# Altium schematic symbol library kmilo17pet-NSC_MiscPower.SchLib: 1552 symbols (part 42 of 43)
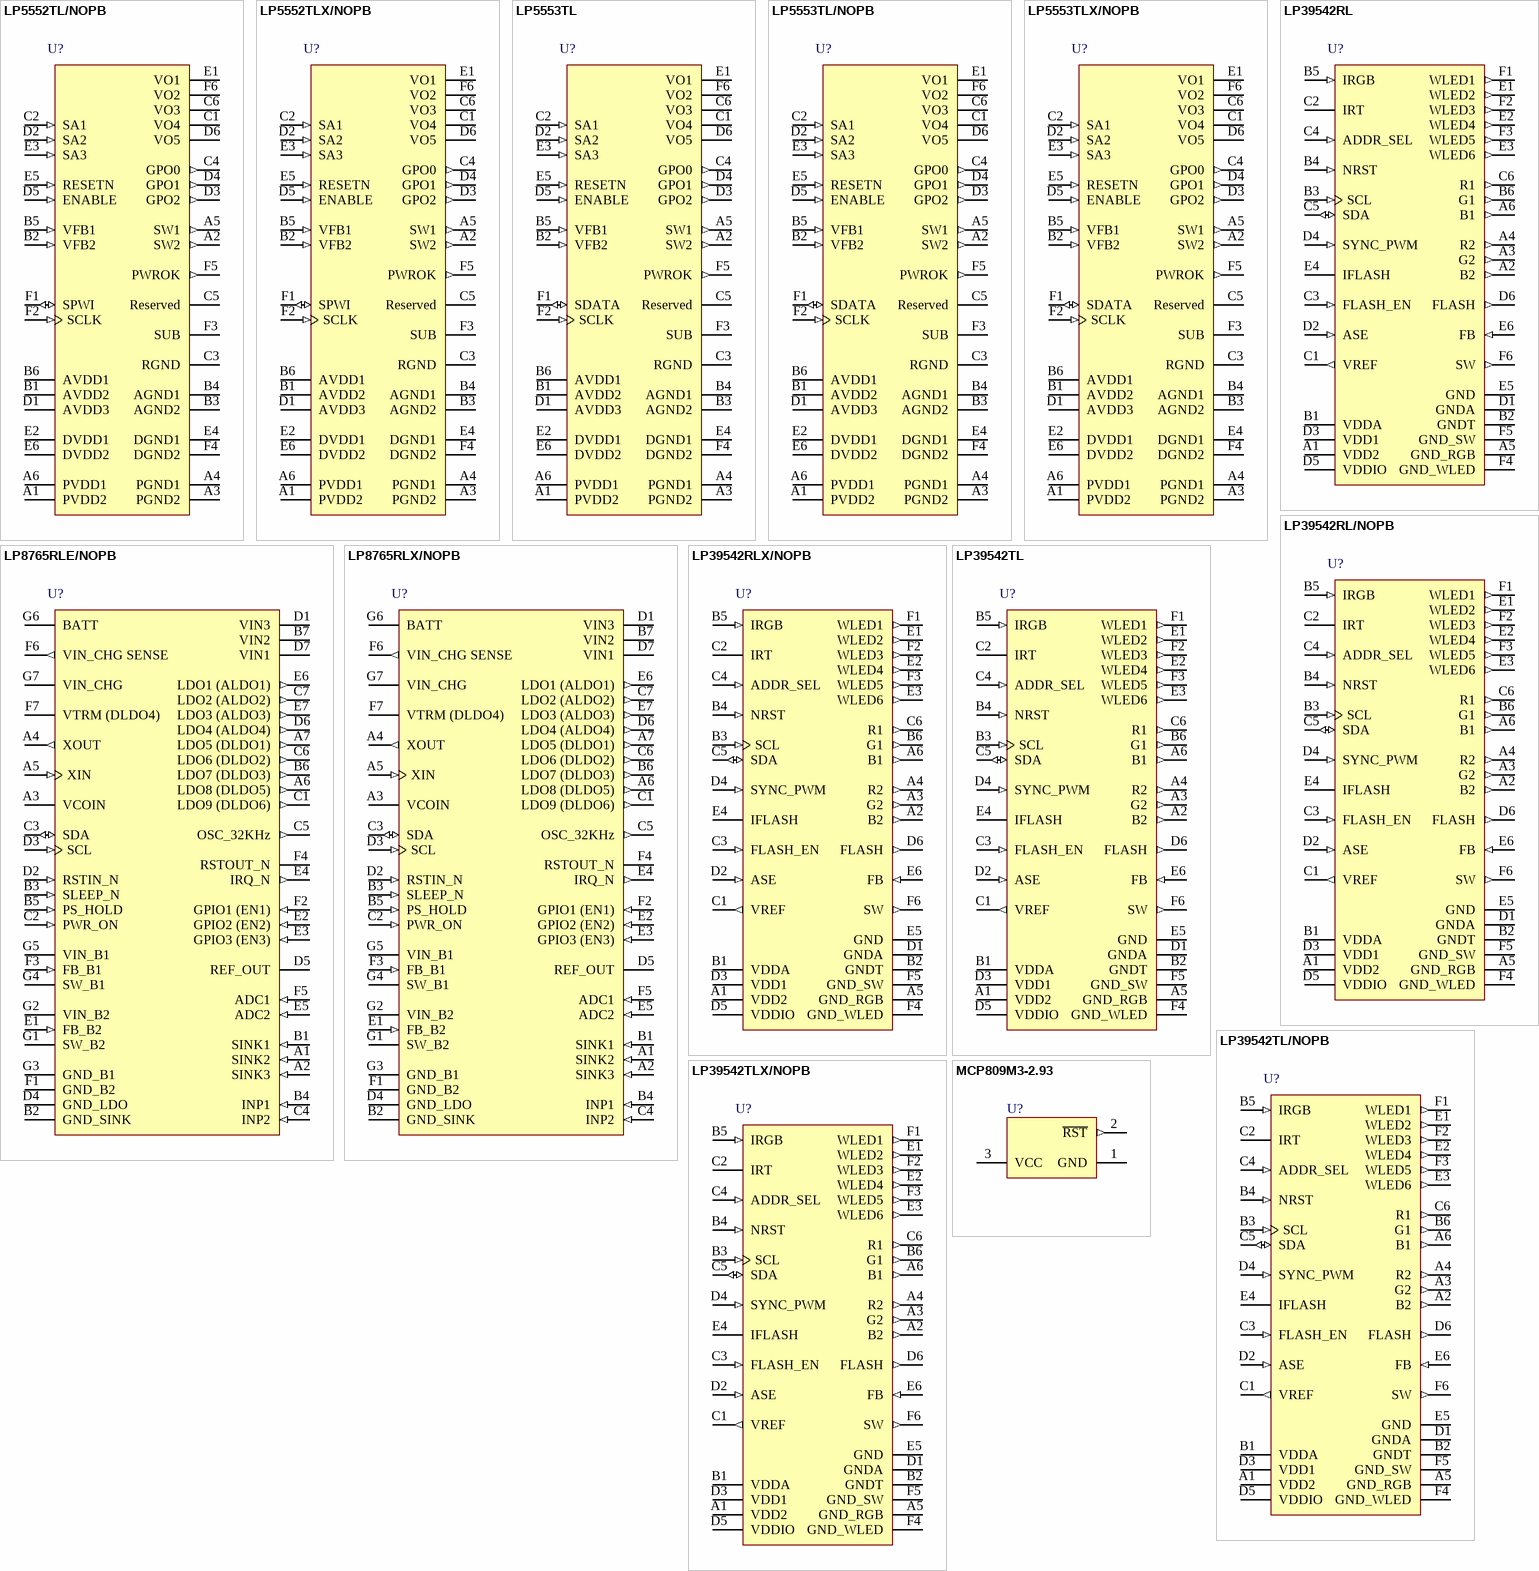
[diagram p98: symbols LP5552TL/NOPB to MCP809M3-2.93]

## LP5553TL
designator U?
PowerWise AVS Energy Management Unit with SPMI, 36-pin Micro SMD; PartNumber: LP5553TL; Manufacturer: National Semiconductor; PackageTopMarking: XYTT*I 5553; PowerWise: Y; CompType: MiscPower; DatasheetVersion: Mar-2009; PackageVersion: revC, Dec-2003; PackageReference: TLA36TTA; PackageDescription: Thin Micro SMD, 36 Bump (Large), 0.5mm Pitch; RoHS: Y; PinCount: 36; High-Reliability: Y; Code_JEDEC: MO-211-DK; ComponentLink1Description: Manufacturer URL; ComponentLink1URL: http://www.national.com/; ComponentLink2Description: LP5553 Datasheet; ComponentLink2URL: http://www.national.com/ds/LP/LP5553.pdf; ComponentLink3Description: LP5553 Web Page; ComponentLink3URL: http://www.national.com/pf/LP/LP5553.html; ComponentLink4Description: TLA36TTA Package Page; ComponentLink4URL: http://www.national.com/packaging/folders/tla36tta.html
footprint TLA36TTA (Micro SMD, 36-Leads, Body 3.46x3.46mm, Pitch 0.5mm, NSC Recommended)
pins: A1 PVDD2 (power), A2 SW2 (out), A3 PGND2 (power), A4 PGND1 (power), A5 SW1 (out), A6 PVDD1 (power), B1 AVDD2 (power), B2 VFB2 (in), B3 AGND2 (power), B4 AGND1 (power), B5 VFB1 (in), B6 AVDD1 (power), C1 VO4 (power), C2 SA1 (in), C3 RGND (power), C4 GPO0 (out), C5 Reserved (power), C6 VO3 (power), D1 AVDD3 (power), D2 SA2 (in), D3 GPO2 (out), D4 GPO1 (out), D5 ENABLE (in), D6 VO5 (power), E1 VO1 (power), E2 DVDD1 (power), E3 SA3 (in), E4 DGND1 (power), E5 RESETN (in), E6 DVDD2 (power), F1 SDATA (io), F2 SCLK (in), F3 SUB (power), F4 DGND2 (power), F5 PWROK (out), F6 VO2 (power)

## LP5553TL/NOPB
designator U?
PowerWise AVS Energy Management Unit with SPMI, 36-pin Micro SMD, Pb-Free; PartNumber: LP5553TL/NOPB; Manufacturer: National Semiconductor; PackageTopMarking: XYTT*I 5553; PowerWise: Y; CompType: MiscPower; DatasheetVersion: Mar-2009; PackageVersion: revC, Dec-2003; PackageReference: TLA36TTA; PackageDescription: Thin Micro SMD, 36 Bump (Large), 0.5mm Pitch; RoHS: Y; PinCount: 36; High-Reliability: Y; Code_JEDEC: MO-211-DK; ComponentLink1Description: Manufacturer URL; ComponentLink1URL: http://www.national.com/; ComponentLink2Description: LP5553 Datasheet; ComponentLink2URL: http://www.national.com/ds/LP/LP5553.pdf; ComponentLink3Description: LP5553 Web Page; ComponentLink3URL: http://www.national.com/pf/LP/LP5553.html; ComponentLink4Description: TLA36TTA Package Page; ComponentLink4URL: http://www.national.com/packaging/folders/tla36tta.html
footprint TLA36TTA (Micro SMD, 36-Leads, Body 3.46x3.46mm, Pitch 0.5mm, NSC Recommended)
pins: A1 PVDD2 (power), A2 SW2 (out), A3 PGND2 (power), A4 PGND1 (power), A5 SW1 (out), A6 PVDD1 (power), B1 AVDD2 (power), B2 VFB2 (in), B3 AGND2 (power), B4 AGND1 (power), B5 VFB1 (in), B6 AVDD1 (power), C1 VO4 (power), C2 SA1 (in), C3 RGND (power), C4 GPO0 (out), C5 Reserved (power), C6 VO3 (power), D1 AVDD3 (power), D2 SA2 (in), D3 GPO2 (out), D4 GPO1 (out), D5 ENABLE (in), D6 VO5 (power), E1 VO1 (power), E2 DVDD1 (power), E3 SA3 (in), E4 DGND1 (power), E5 RESETN (in), E6 DVDD2 (power), F1 SDATA (io), F2 SCLK (in), F3 SUB (power), F4 DGND2 (power), F5 PWROK (out), F6 VO2 (power)

## LP5553TLX/NOPB
designator U?
PowerWise AVS Energy Management Unit with SPMI, 36-pin Micro SMD, Pb-Free; PartNumber: LP5553TLX/NOPB; Manufacturer: National Semiconductor; PackageTopMarking: XYTT*I 5553; PowerWise: Y; CompType: MiscPower; DatasheetVersion: Mar-2009; PackageVersion: revC, Dec-2003; PackageReference: TLA36TTA; PackageDescription: Thin Micro SMD, 36 Bump (Large), 0.5mm Pitch; RoHS: Y; PinCount: 36; High-Reliability: Y; Code_JEDEC: MO-211-DK; ComponentLink1Description: Manufacturer URL; ComponentLink1URL: http://www.national.com/; ComponentLink2Description: LP5553 Datasheet; ComponentLink2URL: http://www.national.com/ds/LP/LP5553.pdf; ComponentLink3Description: LP5553 Web Page; ComponentLink3URL: http://www.national.com/pf/LP/LP5553.html; ComponentLink4Description: TLA36TTA Package Page; ComponentLink4URL: http://www.national.com/packaging/folders/tla36tta.html
footprint TLA36TTA (Micro SMD, 36-Leads, Body 3.46x3.46mm, Pitch 0.5mm, NSC Recommended)
pins: A1 PVDD2 (power), A2 SW2 (out), A3 PGND2 (power), A4 PGND1 (power), A5 SW1 (out), A6 PVDD1 (power), B1 AVDD2 (power), B2 VFB2 (in), B3 AGND2 (power), B4 AGND1 (power), B5 VFB1 (in), B6 AVDD1 (power), C1 VO4 (power), C2 SA1 (in), C3 RGND (power), C4 GPO0 (out), C5 Reserved (power), C6 VO3 (power), D1 AVDD3 (power), D2 SA2 (in), D3 GPO2 (out), D4 GPO1 (out), D5 ENABLE (in), D6 VO5 (power), E1 VO1 (power), E2 DVDD1 (power), E3 SA3 (in), E4 DGND1 (power), E5 RESETN (in), E6 DVDD2 (power), F1 SDATA (io), F2 SCLK (in), F3 SUB (power), F4 DGND2 (power), F5 PWROK (out), F6 VO2 (power)

## LP8765RLE/NOPB
designator U?
High Performance Power Management Unit for Handset Applications, 49-pin Micro SMDXT, 250 Reel; PartNumber: LP8765RLE/NOPB; Manufacturer: National Semiconductor; PackageTopMarking: XYTT*I 8765; PowerWise: N; CompType: MiscPower; High-Reliability: Y; DatasheetVersion: Sep-2011; PackageVersion: revB, Dec-2005; PackageReference: RLA49JJA; PackageDescription: Micro SMDxt, 49 Bump (Large), 3.67 x 3.67 x 0.65 mm Body, 0.5mm Pitch; RoHS: Y; PinCount: 49; ComponentLink1Description: Manufacturer URL; ComponentLink1URL: http://www.national.com/; ComponentLink2Description: LP8765 Datasheet; ComponentLink2URL: http://www.national.com/ds/LP/LP8765.pdf; ComponentLink3Description: LP8765 Web Page; ComponentLink3URL: http://www.national.com/pf/LP/LP8765.html; ComponentLink4Description: RLA49JJA Package Page; ComponentLink4URL: http://www.national.com/packaging/folders/rla49jja.html
footprint RLA49JJA (Micro SMD, 49-Leads, Body 3.67x3.67mm, Pitch 0.5mm, NSC Recommended)
pins: A1 SINK2 (in), A2 SINK3 (in), A3 VCOIN (power), A4 XOUT (out), A5 XIN (in), A6 LDO8 (DLDO5) (out), A7 LDO5 (DLDO1) (out), B1 SINK1 (in), B2 GND_SINK (power), B3 SLEEP_N (in), B4 INP1 (in), B5 PS_HOLD (in), B6 LDO7 (DLDO3) (out), B7 VIN2 (power), C1 LDO9 (DLDO6) (out), C2 PWR_ON (in), C3 SDA (io), C4 INP2 (in), C5 OSC_32KHz (out), C6 LDO6 (DLDO2) (out), C7 LDO2 (ALDO2) (out), D1 VIN3 (power), D2 RSTIN_N (in), D3 SCL (in), D4 GND_LDO (power), D5 REF_OUT (power), D6 LDO4 (ALDO4) (out), D7 VIN1 (power), E1 FB_B2 (in), E2 GPIO2 (EN2) (in), E3 GPIO3 (EN3) (in), E4 IRQ_N (out), E5 ADC2 (in), E6 LDO1 (ALDO1) (out), E7 LDO3 (ALDO3) (out), F1 GND_B2 (power), F2 GPIO1 (EN1) (in), F3 FB_B1 (in), F4 RSTOUT_N (oc), F5 ADC1 (in), F6 VIN_CHG SENSE (out), F7 VTRM (DLDO4) (power), G1 SW_B2, G2 VIN_B2 (power), G3 GND_B1 (power), G4 SW_B1, G5 VIN_B1 (power), G6 BATT (power), G7 VIN_CHG (power)

## LP8765RLX/NOPB
designator U?
High Performance Power Management Unit for Handset Applications, 49-pin Micro SMDXT, 1000 Reel; PartNumber: LP8765RLX/NOPB; Manufacturer: National Semiconductor; PackageTopMarking: XYTT*I 8765; PowerWise: N; CompType: MiscPower; High-Reliability: Y; DatasheetVersion: Sep-2011; PackageVersion: revB, Dec-2005; PackageReference: RLA49JJA; PackageDescription: Micro SMDxt, 49 Bump (Large), 3.67 x 3.67 x 0.65 mm Body, 0.5mm Pitch; RoHS: Y; PinCount: 49; ComponentLink1Description: Manufacturer URL; ComponentLink1URL: http://www.national.com/; ComponentLink2Description: LP8765 Datasheet; ComponentLink2URL: http://www.national.com/ds/LP/LP8765.pdf; ComponentLink3Description: LP8765 Web Page; ComponentLink3URL: http://www.national.com/pf/LP/LP8765.html; ComponentLink4Description: RLA49JJA Package Page; ComponentLink4URL: http://www.national.com/packaging/folders/rla49jja.html
footprint RLA49JJA (Micro SMD, 49-Leads, Body 3.67x3.67mm, Pitch 0.5mm, NSC Recommended)
pins: A1 SINK2 (in), A2 SINK3 (in), A3 VCOIN (power), A4 XOUT (out), A5 XIN (in), A6 LDO8 (DLDO5) (out), A7 LDO5 (DLDO1) (out), B1 SINK1 (in), B2 GND_SINK (power), B3 SLEEP_N (in), B4 INP1 (in), B5 PS_HOLD (in), B6 LDO7 (DLDO3) (out), B7 VIN2 (power), C1 LDO9 (DLDO6) (out), C2 PWR_ON (in), C3 SDA (io), C4 INP2 (in), C5 OSC_32KHz (out), C6 LDO6 (DLDO2) (out), C7 LDO2 (ALDO2) (out), D1 VIN3 (power), D2 RSTIN_N (in), D3 SCL (in), D4 GND_LDO (power), D5 REF_OUT (power), D6 LDO4 (ALDO4) (out), D7 VIN1 (power), E1 FB_B2 (in), E2 GPIO2 (EN2) (in), E3 GPIO3 (EN3) (in), E4 IRQ_N (out), E5 ADC2 (in), E6 LDO1 (ALDO1) (out), E7 LDO3 (ALDO3) (out), F1 GND_B2 (power), F2 GPIO1 (EN1) (in), F3 FB_B1 (in), F4 RSTOUT_N (oc), F5 ADC1 (in), F6 VIN_CHG SENSE (out), F7 VTRM (DLDO4) (power), G1 SW_B2, G2 VIN_B2 (power), G3 GND_B1 (power), G4 SW_B1, G5 VIN_B1 (power), G6 BATT (power), G7 VIN_CHG (power)

## LP39542RL
designator U?
Advanced Lighting Management Unit, 36-pin Micro SMDXT; PartNumber: LP39542RL; Manufacturer: National Semiconductor; PackageTopMarking: XYTT*I D60B; PowerWise: N; CompType: MiscPower; High-Reliability: Y; DatasheetVersion: Aug-2007; PackageVersion: Aug-2007; PackageReference: RLA36AAA; PackageDescription: Micro SMDxt, 36 Bump (Large), 0.5mm Pitch; RoHS: Y; PinCount: 36; ComponentLink1Description: Manufacturer URL; ComponentLink1URL: http://www.national.com/; ComponentLink2Description: LP39542 Datasheet; ComponentLink2URL: http://www.national.com/ds/LP/LP39542.pdf; ComponentLink3Description: LP39542 Web Page; ComponentLink3URL: http://www.national.com/pf/LP/LP39542.html
footprint RLA36AAA (Micro SMD, 36-Leads, Body 3x3mm, Pitch 0.5mm, NSC Recommended)
pins: A1 VDD2 (power), A2 B2 (out), A3 G2 (out), A4 R2 (out), A5 GND_RGB (power), A6 B1 (out), B1 VDDA (power), B2 GNDT (power), B3 SCL (in), B4 NRST (in), B5 IRGB (in), B6 G1 (out), C1 VREF (out), C2 IRT, C3 FLASH_EN (in), C4 ADDR_SEL (in), C5 SDA (io), C6 R1 (out), D1 GNDA (power), D2 ASE (in), D3 VDD1 (power), D4 SYNC_PWM (in), D5 VDDIO (power), D6 FLASH (out), E1 WLED2 (out), E2 WLED4 (out), E3 WLED6 (out), E4 IFLASH, E5 GND (power), E6 FB (in), F1 WLED1 (out), F2 WLED3 (out), F3 WLED5 (out), F4 GND_WLED (power), F5 GND_SW (power), F6 SW (out)

## LP39542RL/NOPB
designator U?
Advanced Lighting Management Unit, 36-pin Micro SMDXT, Pb-Free; PartNumber: LP39542RL/NOPB; Manufacturer: National Semiconductor; PackageTopMarking: XYTT*I D60B; PowerWise: N; CompType: MiscPower; High-Reliability: Y; DatasheetVersion: Aug-2007; PackageVersion: Aug-2007; PackageReference: RLA36AAA; PackageDescription: Micro SMDxt, 36 Bump (Large), 0.5mm Pitch; RoHS: Y; PinCount: 36; ComponentLink1Description: Manufacturer URL; ComponentLink1URL: http://www.national.com/; ComponentLink2Description: LP39542 Datasheet; ComponentLink2URL: http://www.national.com/ds/LP/LP39542.pdf; ComponentLink3Description: LP39542 Web Page; ComponentLink3URL: http://www.national.com/pf/LP/LP39542.html; ComponentLink4Description: RLA36AAA Package Page; ComponentLink4URL: http://www.national.com/packaging/folders/rla36aaa.html
footprint RLA36AAA (Micro SMD, 36-Leads, Body 3x3mm, Pitch 0.5mm, NSC Recommended)
pins: A1 VDD2 (power), A2 B2 (out), A3 G2 (out), A4 R2 (out), A5 GND_RGB (power), A6 B1 (out), B1 VDDA (power), B2 GNDT (power), B3 SCL (in), B4 NRST (in), B5 IRGB (in), B6 G1 (out), C1 VREF (out), C2 IRT, C3 FLASH_EN (in), C4 ADDR_SEL (in), C5 SDA (io), C6 R1 (out), D1 GNDA (power), D2 ASE (in), D3 VDD1 (power), D4 SYNC_PWM (in), D5 VDDIO (power), D6 FLASH (out), E1 WLED2 (out), E2 WLED4 (out), E3 WLED6 (out), E4 IFLASH, E5 GND (power), E6 FB (in), F1 WLED1 (out), F2 WLED3 (out), F3 WLED5 (out), F4 GND_WLED (power), F5 GND_SW (power), F6 SW (out)

## LP39542RLX/NOPB
designator U?
Advanced Lighting Management Unit, 36-pin Micro SMDXT, Pb-Free; PartNumber: LP39542RLX/NOPB; Manufacturer: National Semiconductor; PackageTopMarking: XYTT*I D60B; PowerWise: N; CompType: MiscPower; High-Reliability: Y; DatasheetVersion: Aug-2007; PackageVersion: Aug-2007; PackageReference: RLA36AAA; PackageDescription: Micro SMDxt, 36 Bump (Large), 0.5mm Pitch; RoHS: Y; PinCount: 36; ComponentLink1Description: Manufacturer URL; ComponentLink1URL: http://www.national.com/; ComponentLink2Description: LP39542 Datasheet; ComponentLink2URL: http://www.national.com/ds/LP/LP39542.pdf; ComponentLink3Description: LP39542 Web Page; ComponentLink3URL: http://www.national.com/pf/LP/LP39542.html; ComponentLink4Description: RLA36AAA Package Page; ComponentLink4URL: http://www.national.com/packaging/folders/rla36aaa.html
footprint RLA36AAA (Micro SMD, 36-Leads, Body 3x3mm, Pitch 0.5mm, NSC Recommended)
pins: A1 VDD2 (power), A2 B2 (out), A3 G2 (out), A4 R2 (out), A5 GND_RGB (power), A6 B1 (out), B1 VDDA (power), B2 GNDT (power), B3 SCL (in), B4 NRST (in), B5 IRGB (in), B6 G1 (out), C1 VREF (out), C2 IRT, C3 FLASH_EN (in), C4 ADDR_SEL (in), C5 SDA (io), C6 R1 (out), D1 GNDA (power), D2 ASE (in), D3 VDD1 (power), D4 SYNC_PWM (in), D5 VDDIO (power), D6 FLASH (out), E1 WLED2 (out), E2 WLED4 (out), E3 WLED6 (out), E4 IFLASH, E5 GND (power), E6 FB (in), F1 WLED1 (out), F2 WLED3 (out), F3 WLED5 (out), F4 GND_WLED (power), F5 GND_SW (power), F6 SW (out)

## LP39542TL
designator U?
Advanced Lighting Management Unit, 36-pin Micro SMD; PartNumber: LP39542TL; Manufacturer: National Semiconductor; PackageTopMarking: XYTT*I D58B; PowerWise: Y; CompType: MiscPower; DatasheetVersion: Aug-2007; PackageVersion: revC, Dec-2003; PackageReference: TLA36AAA; PackageDescription: Thin Micro SMD, 36 Bump (Large), 0.5mm Pitch; RoHS: Y; PinCount: 36; High-Reliability: Y; Code_JEDEC: MO-211-DK; ComponentLink1Description: Manufacturer URL; ComponentLink1URL: http://www.national.com/; ComponentLink2Description: LP39542 Datasheet; ComponentLink2URL: http://www.national.com/ds/LP/LP39542.pdf; ComponentLink3Description: LP39542 Web Page; ComponentLink3URL: http://www.national.com/pf/LP/LP39542.html; ComponentLink4Description: TLA36AAA Package Page; ComponentLink4URL: http://www.national.com/packaging/folders/tla36aaa.html
footprint TLA36AAA (Micro SMD, 36-Leads, Body 3x3mm, Pitch 0.5mm, NSC Recommended)
pins: A1 VDD2 (power), A2 B2 (out), A3 G2 (out), A4 R2 (out), A5 GND_RGB (power), A6 B1 (out), B1 VDDA (power), B2 GNDT (power), B3 SCL (in), B4 NRST (in), B5 IRGB (in), B6 G1 (out), C1 VREF (out), C2 IRT, C3 FLASH_EN (in), C4 ADDR_SEL (in), C5 SDA (io), C6 R1 (out), D1 GNDA (power), D2 ASE (in), D3 VDD1 (power), D4 SYNC_PWM (in), D5 VDDIO (power), D6 FLASH (out), E1 WLED2 (out), E2 WLED4 (out), E3 WLED6 (out), E4 IFLASH, E5 GND (power), E6 FB (in), F1 WLED1 (out), F2 WLED3 (out), F3 WLED5 (out), F4 GND_WLED (power), F5 GND_SW (power), F6 SW (out)

## LP39542TL/NOPB
designator U?
Advanced Lighting Management Unit, 36-pin Micro SMD, Pb-Free; PartNumber: LP39542TL/NOPB; Manufacturer: National Semiconductor; PackageTopMarking: XYTT*I D58B; PowerWise: Y; CompType: MiscPower; DatasheetVersion: Aug-2007; PackageVersion: revC, Dec-2003; PackageReference: TLA36AAA; PackageDescription: Thin Micro SMD, 36 Bump (Large), 0.5mm Pitch; RoHS: Y; PinCount: 36; High-Reliability: Y; Code_JEDEC: MO-211-DK; ComponentLink1Description: Manufacturer URL; ComponentLink1URL: http://www.national.com/; ComponentLink2Description: LP39542 Datasheet; ComponentLink2URL: http://www.national.com/ds/LP/LP39542.pdf; ComponentLink3Description: LP39542 Web Page; ComponentLink3URL: http://www.national.com/pf/LP/LP39542.html; ComponentLink4Description: TLA36AAA Package Page; ComponentLink4URL: http://www.national.com/packaging/folders/tla36aaa.html
footprint TLA36AAA (Micro SMD, 36-Leads, Body 3x3mm, Pitch 0.5mm, NSC Recommended)
pins: A1 VDD2 (power), A2 B2 (out), A3 G2 (out), A4 R2 (out), A5 GND_RGB (power), A6 B1 (out), B1 VDDA (power), B2 GNDT (power), B3 SCL (in), B4 NRST (in), B5 IRGB (in), B6 G1 (out), C1 VREF (out), C2 IRT, C3 FLASH_EN (in), C4 ADDR_SEL (in), C5 SDA (io), C6 R1 (out), D1 GNDA (power), D2 ASE (in), D3 VDD1 (power), D4 SYNC_PWM (in), D5 VDDIO (power), D6 FLASH (out), E1 WLED2 (out), E2 WLED4 (out), E3 WLED6 (out), E4 IFLASH, E5 GND (power), E6 FB (in), F1 WLED1 (out), F2 WLED3 (out), F3 WLED5 (out), F4 GND_WLED (power), F5 GND_SW (power), F6 SW (out)

## LP39542TLX/NOPB
designator U?
Advanced Lighting Management Unit, 36-pin Micro SMD, Pb-Free; PartNumber: LP39542TLX/NOPB; Manufacturer: National Semiconductor; PackageTopMarking: XYTT*I D58B; PowerWise: Y; CompType: MiscPower; DatasheetVersion: Aug-2007; PackageVersion: revC, Dec-2003; PackageReference: TLA36AAA; PackageDescription: Thin Micro SMD, 36 Bump (Large), 0.5mm Pitch; RoHS: Y; PinCount: 36; High-Reliability: Y; Code_JEDEC: MO-211-DK; ComponentLink1Description: Manufacturer URL; ComponentLink1URL: http://www.national.com/; ComponentLink2Description: LP39542 Datasheet; ComponentLink2URL: http://www.national.com/ds/LP/LP39542.pdf; ComponentLink3Description: LP39542 Web Page; ComponentLink3URL: http://www.national.com/pf/LP/LP39542.html; ComponentLink4Description: TLA36AAA Package Page; ComponentLink4URL: http://www.national.com/packaging/folders/tla36aaa.html
footprint TLA36AAA (Micro SMD, 36-Leads, Body 3x3mm, Pitch 0.5mm, NSC Recommended)
pins: A1 VDD2 (power), A2 B2 (out), A3 G2 (out), A4 R2 (out), A5 GND_RGB (power), A6 B1 (out), B1 VDDA (power), B2 GNDT (power), B3 SCL (in), B4 NRST (in), B5 IRGB (in), B6 G1 (out), C1 VREF (out), C2 IRT, C3 FLASH_EN (in), C4 ADDR_SEL (in), C5 SDA (io), C6 R1 (out), D1 GNDA (power), D2 ASE (in), D3 VDD1 (power), D4 SYNC_PWM (in), D5 VDDIO (power), D6 FLASH (out), E1 WLED2 (out), E2 WLED4 (out), E3 WLED6 (out), E4 IFLASH, E5 GND (power), E6 FB (in), F1 WLED1 (out), F2 WLED3 (out), F3 WLED5 (out), F4 GND_WLED (power), F5 GND_SW (power), F6 SW (out)

## MCP809M3-2.93
designator U?
Microprocessor Reset Circuit, 2.93V Threshold, 3-pin SOT-23; PartNumber: MCP809M3-2.93; Manufacturer: National Semiconductor; PackageTopMarking: SRB*XTT; PowerWise: N; CompType: MiscPower; High-Reliability: Y; DatasheetVersion: Jun-2001; PackageVersion: revB, Mar-2003; PackageReference: MF03A; PackageDescription: Molded SOT-23, .115 x .051 x .037in Body, 3 Lead, .075 in Pitch; RoHS: N; PinCount: 3; ComponentLink1Description: Manufacturer URL; ComponentLink1URL: http://www.national.com/; ComponentLink2Description: MCP809 Datasheet; ComponentLink2URL: http://www.national.com/ds/MC/MCP809.pdf; ComponentLink3Description: MCP809 Web Page; ComponentLink3URL: http://www.national.com/pf/MC/MCP809.html; ComponentLink4Description: MF03A Package Page; ComponentLink4URL: http://www.national.com/packaging/folders/mf03a.html
footprint MF03A_N (SOT23, 3-Leads, Body 2.9x1.3mm, Pitch 0.95mm, Lead Span 2.4mm, IPC Medium Density)
footprint MF03A_L (SOT23, 3-Leads, Body 2.9x1.3mm, Pitch 0.95mm, Lead Span 2.4mm, IPC High Density)
footprint MF03A_M (SOT23, 3-Leads, Body 2.9x1.3mm, Pitch 0.95mm, Lead Span 2.4mm, IPC Low Density)
pins: 1 GND (power), 2 ~{RST} (out), 3 VCC (power)

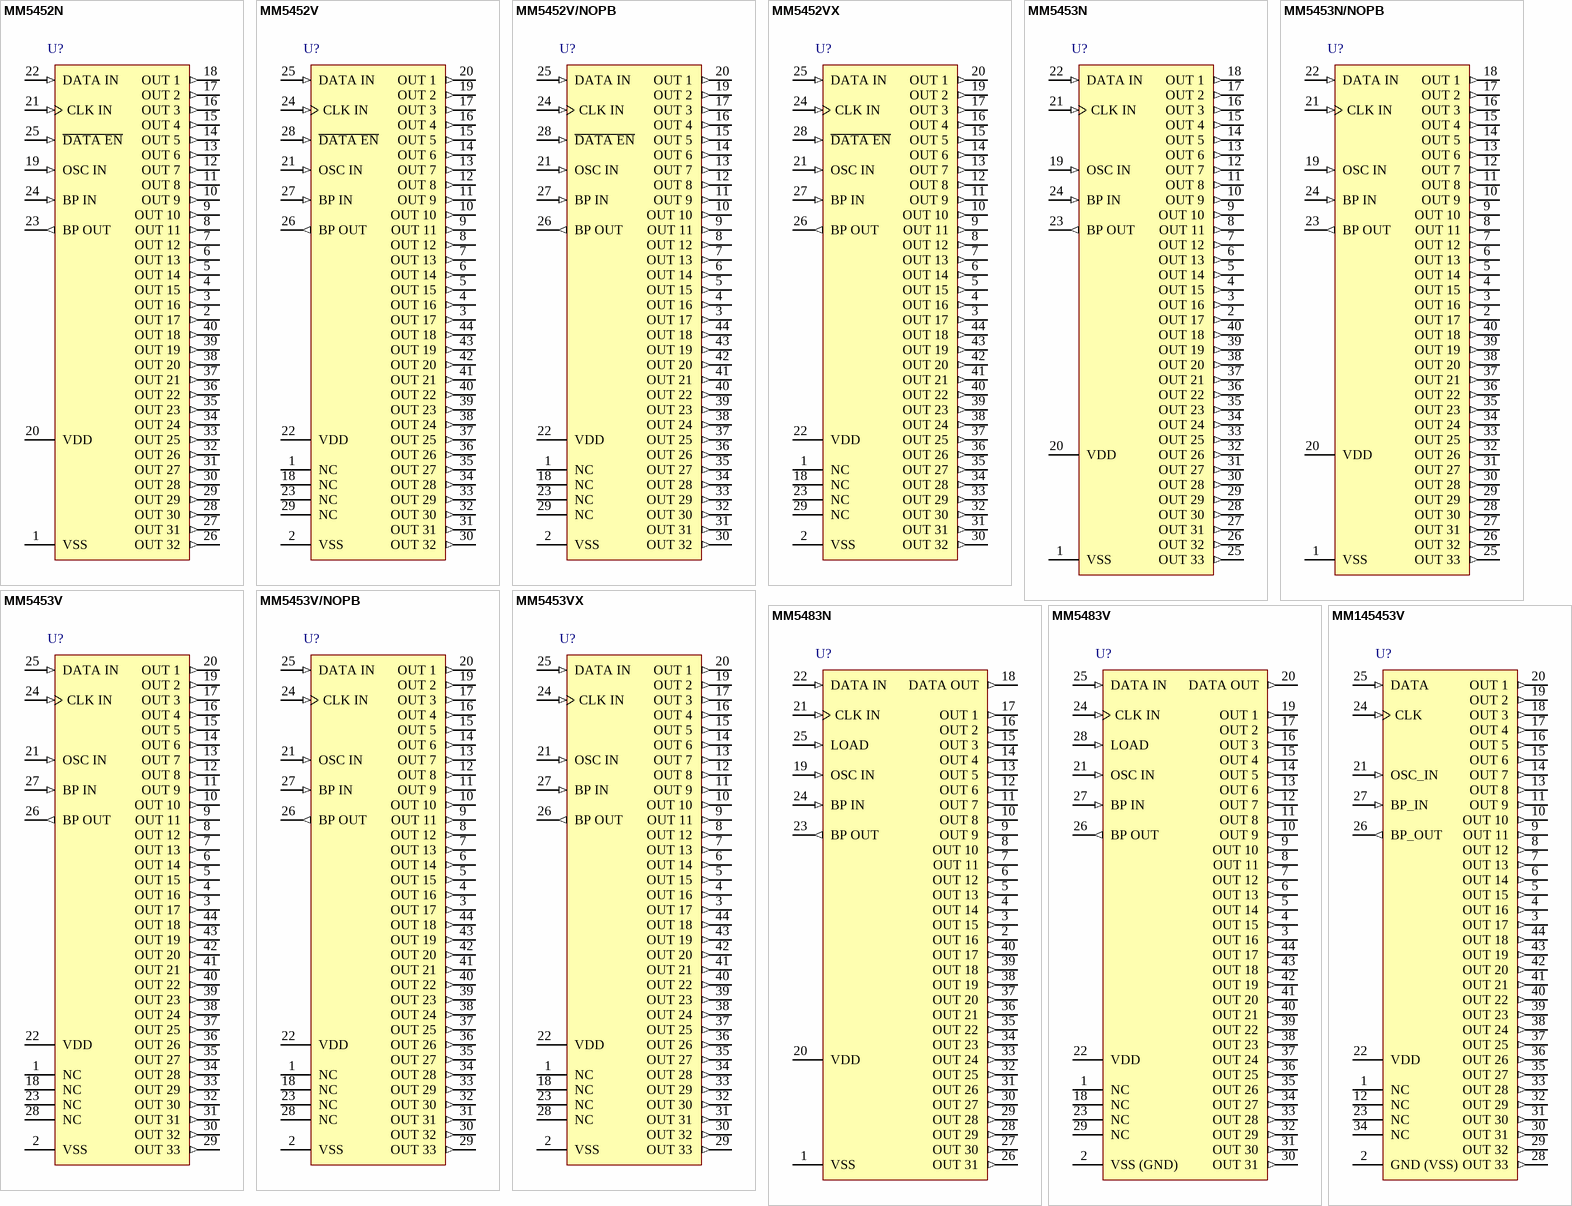
[diagram p56: symbols MM5452N to MM145453V]

## MM5452N
designator U?
Liquid Crystal Display Driver, 40-pin MDIP; PartNumber: MM5452N; Manufacturer: National Semiconductor; PackageTopMarking: NSUZXYYTTE#*MM5452N; PowerWise: N; CompType: MiscPower; High-Reliability: Y; DatasheetVersion: Dec-2008; PackageVersion: revE, Nov-1983; PackageReference: N40A; PackageDescription: 40 Lead Molded Dip (N); RoHS: N; PinCount: 40; ComponentLink1Description: Manufacturer URL; ComponentLink1URL: http://www.national.com/; ComponentLink2Description: MM5452 Datasheet; ComponentLink2URL: http://www.national.com/ds/MM/MM5452.pdf; ComponentLink3Description: MM5452 Web Page; ComponentLink3URL: http://www.national.com/pf/MM/MM5452.html; ComponentLink4Description: N40A Package Page; ComponentLink4URL: http://www.national.com/packaging/folders/n40a.html
footprint N40A (DIP, 40-Leads, Row Spacing 15.24mm, Pitch 2.54mm, Body 52.24x13.97mm)
pins: 1 VSS (power), 2 OUT 17 (out), 3 OUT 16 (out), 4 OUT 15 (out), 5 OUT 14 (out), 6 OUT 13 (out), 7 OUT 12 (out), 8 OUT 11 (out), 9 OUT 10 (out), 10 OUT 9 (out), 11 OUT 8 (out), 12 OUT 7 (out), 13 OUT 6 (out), 14 OUT 5 (out), 15 OUT 4 (out), 16 OUT 3 (out), 17 OUT 2 (out), 18 OUT 1 (out), 19 OSC IN (in), 20 VDD (power), 21 CLK IN (in), 22 DATA IN (in), 23 BP OUT (out), 24 BP IN (in), 25 ~{DATA EN} (in), 26 OUT 32 (out), 27 OUT 31 (out), 28 OUT 30 (out), 29 OUT 29 (out), 30 OUT 28 (out), 31 OUT 27 (out), 32 OUT 26 (out), 33 OUT 25 (out), 34 OUT 24 (out), 35 OUT 23 (out), 36 OUT 22 (out), 37 OUT 21 (out), 38 OUT 20 (out), 39 OUT 19 (out), 40 OUT 18 (out)

## MM5452V
designator U?
Liquid Crystal Display Driver, 44-pin PLCC; PartNumber: MM5452V; Manufacturer: National Semiconductor; PackageTopMarking: NSUZXYYTTE#*MM5452V; PowerWise: N; CompType: MiscPower; High-Reliability: Y; DatasheetVersion: Dec-2008; PackageVersion: revK, Dec-1993; PackageReference: V44A; PackageDescription: Plastic Chip Carrier, Sq, .050in Pitch, 44 Lead; RoHS: N; PinCount: 44; Code_IPC: PLCC-44; ComponentLink1Description: Manufacturer URL; ComponentLink1URL: http://www.national.com/; ComponentLink2Description: MM5452 Datasheet; ComponentLink2URL: http://www.national.com/ds/MM/MM5452.pdf; ComponentLink3Description: MM5452 Web Page; ComponentLink3URL: http://www.national.com/pf/MM/MM5452.html; ComponentLink4Description: V44A Package Page; ComponentLink4URL: http://www.national.com/packaging/folders/v44a.html
footprint V44A_N (Leaded Chip Carrier, 44-Leads, Body 16.6x16.6mm, Pitch 1.27mm, IPC Medium Density)
footprint V44A_L (Leaded Chip Carrier, 44-Leads, Body 16.6x16.6mm, Pitch 1.27mm, IPC High Density)
footprint V44A_M (Leaded Chip Carrier, 44-Leads, Body 16.6x16.6mm, Pitch 1.27mm, IPC Low Density)
pins: 1 NC, 2 VSS (power), 3 OUT 17 (out), 4 OUT 16 (out), 5 OUT 15 (out), 6 OUT 14 (out), 7 OUT 13 (out), 8 OUT 12 (out), 9 OUT 11 (out), 10 OUT 10 (out), 11 OUT 9 (out), 12 OUT 8 (out), 13 OUT 7 (out), 14 OUT 6 (out), 15 OUT 5 (out), 16 OUT 4 (out), 17 OUT 3 (out), 18 NC, 19 OUT 2 (out), 20 OUT 1 (out), 21 OSC IN (in), 22 VDD (power), 23 NC, 24 CLK IN (in), 25 DATA IN (in), 26 BP OUT (out), 27 BP IN (in), 28 ~{DATA EN} (in), 29 NC, 30 OUT 32 (out), 31 OUT 31 (out), 32 OUT 30 (out), 33 OUT 29 (out), 34 OUT 28 (out), 35 OUT 27 (out), 36 OUT 26 (out), 37 OUT 25 (out), 38 OUT 24 (out), 39 OUT 23 (out), 40 OUT 22 (out), 41 OUT 21 (out), 42 OUT 20 (out), 43 OUT 19 (out), 44 OUT 18 (out)

## MM5452V/NOPB
designator U?
Liquid Crystal Display Drivers, 44-pin PLCC, Pb-Free; PartNumber: MM5452V/NOPB; Manufacturer: National Semiconductor; PackageTopMarking: NSUZXYYTTE#*MM5452V; PowerWise: N; CompType: MiscPower; High-Reliability: Y; DatasheetVersion: Dec-2008; PackageVersion: revK, Dec-1993; PackageReference: V44A; PackageDescription: Plastic Chip Carrier, Sq, .050in Pitch, 44 Lead; RoHS: Y; PinCount: 44; Code_IPC: PLCC-44; ComponentLink1Description: Manufacturer URL; ComponentLink1URL: http://www.national.com/; ComponentLink2Description: MM5452 Datasheet; ComponentLink2URL: http://www.national.com/ds/MM/MM5452.pdf; ComponentLink3Description: MM5452 Web Page; ComponentLink3URL: http://www.national.com/pf/MM/MM5452.html; ComponentLink4Description: V44A Package Page; ComponentLink4URL: http://www.national.com/packaging/folders/v44a.html
footprint V44A_N (Leaded Chip Carrier, 44-Leads, Body 16.6x16.6mm, Pitch 1.27mm, IPC Medium Density)
footprint V44A_L (Leaded Chip Carrier, 44-Leads, Body 16.6x16.6mm, Pitch 1.27mm, IPC High Density)
footprint V44A_M (Leaded Chip Carrier, 44-Leads, Body 16.6x16.6mm, Pitch 1.27mm, IPC Low Density)
pins: 1 NC, 2 VSS (power), 3 OUT 17 (out), 4 OUT 16 (out), 5 OUT 15 (out), 6 OUT 14 (out), 7 OUT 13 (out), 8 OUT 12 (out), 9 OUT 11 (out), 10 OUT 10 (out), 11 OUT 9 (out), 12 OUT 8 (out), 13 OUT 7 (out), 14 OUT 6 (out), 15 OUT 5 (out), 16 OUT 4 (out), 17 OUT 3 (out), 18 NC, 19 OUT 2 (out), 20 OUT 1 (out), 21 OSC IN (in), 22 VDD (power), 23 NC, 24 CLK IN (in), 25 DATA IN (in), 26 BP OUT (out), 27 BP IN (in), 28 ~{DATA EN} (in), 29 NC, 30 OUT 32 (out), 31 OUT 31 (out), 32 OUT 30 (out), 33 OUT 29 (out), 34 OUT 28 (out), 35 OUT 27 (out), 36 OUT 26 (out), 37 OUT 25 (out), 38 OUT 24 (out), 39 OUT 23 (out), 40 OUT 22 (out), 41 OUT 21 (out), 42 OUT 20 (out), 43 OUT 19 (out), 44 OUT 18 (out)

## MM5452VX
designator U?
Liquid Crystal Display Drivers, 44-pin PLCC; PartNumber: MM5452VX; Manufacturer: National Semiconductor; PackageTopMarking: NSUZXYYTTE#*MM5452V; PowerWise: N; CompType: MiscPower; High-Reliability: Y; DatasheetVersion: Dec-2008; PackageVersion: revK, Dec-1993; PackageReference: V44A; PackageDescription: Plastic Chip Carrier, Sq, .050in Pitch, 44 Lead; RoHS: N; PinCount: 44; Code_IPC: PLCC-44; ComponentLink1Description: Manufacturer URL; ComponentLink1URL: http://www.national.com/; ComponentLink2Description: MM5452 Datasheet; ComponentLink2URL: http://www.national.com/ds/MM/MM5452.pdf; ComponentLink3Description: MM5452 Web Page; ComponentLink3URL: http://www.national.com/pf/MM/MM5452.html; ComponentLink4Description: V44A Package Page; ComponentLink4URL: http://www.national.com/packaging/folders/v44a.html
footprint V44A_N (Leaded Chip Carrier, 44-Leads, Body 16.6x16.6mm, Pitch 1.27mm, IPC Medium Density)
footprint V44A_L (Leaded Chip Carrier, 44-Leads, Body 16.6x16.6mm, Pitch 1.27mm, IPC High Density)
footprint V44A_M (Leaded Chip Carrier, 44-Leads, Body 16.6x16.6mm, Pitch 1.27mm, IPC Low Density)
pins: 1 NC, 2 VSS (power), 3 OUT 17 (out), 4 OUT 16 (out), 5 OUT 15 (out), 6 OUT 14 (out), 7 OUT 13 (out), 8 OUT 12 (out), 9 OUT 11 (out), 10 OUT 10 (out), 11 OUT 9 (out), 12 OUT 8 (out), 13 OUT 7 (out), 14 OUT 6 (out), 15 OUT 5 (out), 16 OUT 4 (out), 17 OUT 3 (out), 18 NC, 19 OUT 2 (out), 20 OUT 1 (out), 21 OSC IN (in), 22 VDD (power), 23 NC, 24 CLK IN (in), 25 DATA IN (in), 26 BP OUT (out), 27 BP IN (in), 28 ~{DATA EN} (in), 29 NC, 30 OUT 32 (out), 31 OUT 31 (out), 32 OUT 30 (out), 33 OUT 29 (out), 34 OUT 28 (out), 35 OUT 27 (out), 36 OUT 26 (out), 37 OUT 25 (out), 38 OUT 24 (out), 39 OUT 23 (out), 40 OUT 22 (out), 41 OUT 21 (out), 42 OUT 20 (out), 43 OUT 19 (out), 44 OUT 18 (out)

## MM5453N
designator U?
Liquid Crystal Display Driver, 40-pin MDIP; PartNumber: MM5453N; Manufacturer: National Semiconductor; PackageTopMarking: NSUZXYYTTE#*MM5453N; PowerWise: N; CompType: MiscPower; High-Reliability: Y; DatasheetVersion: Dec-2008; PackageVersion: revE, Nov-1983; PackageReference: N40A; PackageDescription: 40 Lead Molded Dip (N); RoHS: N; PinCount: 40; ComponentLink1Description: Manufacturer URL; ComponentLink1URL: http://www.national.com/; ComponentLink2Description: MM5453 Datasheet; ComponentLink2URL: http://www.national.com/ds/MM/MM5453.pdf; ComponentLink3Description: MM5453 Web Page; ComponentLink3URL: http://www.national.com/pf/MM/MM5453.html; ComponentLink4Description: N40A Package Page; ComponentLink4URL: http://www.national.com/packaging/folders/n40a.html
footprint N40A (DIP, 40-Leads, Row Spacing 15.24mm, Pitch 2.54mm, Body 52.24x13.97mm)
pins: 1 VSS (power), 2 OUT 17 (out), 3 OUT 16 (out), 4 OUT 15 (out), 5 OUT 14 (out), 6 OUT 13 (out), 7 OUT 12 (out), 8 OUT 11 (out), 9 OUT 10 (out), 10 OUT 9 (out), 11 OUT 8 (out), 12 OUT 7 (out), 13 OUT 6 (out), 14 OUT 5 (out), 15 OUT 4 (out), 16 OUT 3 (out), 17 OUT 2 (out), 18 OUT 1 (out), 19 OSC IN (in), 20 VDD (power), 21 CLK IN (in), 22 DATA IN (in), 23 BP OUT (out), 24 BP IN (in), 25 OUT 33 (out), 26 OUT 32 (out), 27 OUT 31 (out), 28 OUT 30 (out), 29 OUT 29 (out), 30 OUT 28 (out), 31 OUT 27 (out), 32 OUT 26 (out), 33 OUT 25 (out), 34 OUT 24 (out), 35 OUT 23 (out), 36 OUT 22 (out), 37 OUT 21 (out), 38 OUT 20 (out), 39 OUT 19 (out), 40 OUT 18 (out)

## MM5453N/NOPB
designator U?
Liquid Crystal Display Drivers, 40-pin MDIP, Pb-Free; PartNumber: MM5453N/NOPB; Manufacturer: National Semiconductor; PackageTopMarking: NSUZXYYTTE#*MM5453N; PowerWise: N; CompType: MiscPower; High-Reliability: Y; DatasheetVersion: Dec-2008; PackageVersion: revE, Nov-1983; PackageReference: N40A; PackageDescription: 40 Lead Molded Dip (N); RoHS: Y; PinCount: 40; ComponentLink1Description: Manufacturer URL; ComponentLink1URL: http://www.national.com/; ComponentLink2Description: MM5453 Datasheet; ComponentLink2URL: http://www.national.com/ds/MM/MM5453.pdf; ComponentLink3Description: MM5453 Web Page; ComponentLink3URL: http://www.national.com/pf/MM/MM5453.html; ComponentLink4Description: N40A Package Page; ComponentLink4URL: http://www.national.com/packaging/folders/n40a.html
footprint N40A (DIP, 40-Leads, Row Spacing 15.24mm, Pitch 2.54mm, Body 52.24x13.97mm)
pins: 1 VSS (power), 2 OUT 17 (out), 3 OUT 16 (out), 4 OUT 15 (out), 5 OUT 14 (out), 6 OUT 13 (out), 7 OUT 12 (out), 8 OUT 11 (out), 9 OUT 10 (out), 10 OUT 9 (out), 11 OUT 8 (out), 12 OUT 7 (out), 13 OUT 6 (out), 14 OUT 5 (out), 15 OUT 4 (out), 16 OUT 3 (out), 17 OUT 2 (out), 18 OUT 1 (out), 19 OSC IN (in), 20 VDD (power), 21 CLK IN (in), 22 DATA IN (in), 23 BP OUT (out), 24 BP IN (in), 25 OUT 33 (out), 26 OUT 32 (out), 27 OUT 31 (out), 28 OUT 30 (out), 29 OUT 29 (out), 30 OUT 28 (out), 31 OUT 27 (out), 32 OUT 26 (out), 33 OUT 25 (out), 34 OUT 24 (out), 35 OUT 23 (out), 36 OUT 22 (out), 37 OUT 21 (out), 38 OUT 20 (out), 39 OUT 19 (out), 40 OUT 18 (out)

## MM5453V
designator U?
Liquid Crystal Display Driver, 44-pin PLCC; PartNumber: MM5453V; Manufacturer: National Semiconductor; PackageTopMarking: NSUZXYYTTE#*MM5453V; PowerWise: N; CompType: MiscPower; High-Reliability: Y; DatasheetVersion: Dec-2008; PackageVersion: revK, Dec-1993; PackageReference: V44A; PackageDescription: Plastic Chip Carrier, Sq, .050in Pitch, 44 Lead; RoHS: N; PinCount: 44; Code_IPC: PLCC-44; ComponentLink1Description: Manufacturer URL; ComponentLink1URL: http://www.national.com/; ComponentLink2Description: MM5453 Datasheet; ComponentLink2URL: http://www.national.com/ds/MM/MM5453.pdf; ComponentLink3Description: MM5453 Web Page; ComponentLink3URL: http://www.national.com/pf/MM/MM5453.html; ComponentLink4Description: V44A Package Page; ComponentLink4URL: http://www.national.com/packaging/folders/v44a.html
footprint V44A_N (Leaded Chip Carrier, 44-Leads, Body 16.6x16.6mm, Pitch 1.27mm, IPC Medium Density)
footprint V44A_L (Leaded Chip Carrier, 44-Leads, Body 16.6x16.6mm, Pitch 1.27mm, IPC High Density)
footprint V44A_M (Leaded Chip Carrier, 44-Leads, Body 16.6x16.6mm, Pitch 1.27mm, IPC Low Density)
pins: 1 NC, 2 VSS (power), 3 OUT 17 (out), 4 OUT 16 (out), 5 OUT 15 (out), 6 OUT 14 (out), 7 OUT 13 (out), 8 OUT 12 (out), 9 OUT 11 (out), 10 OUT 10 (out), 11 OUT 9 (out), 12 OUT 8 (out), 13 OUT 7 (out), 14 OUT 6 (out), 15 OUT 5 (out), 16 OUT 4 (out), 17 OUT 3 (out), 18 NC, 19 OUT 2 (out), 20 OUT 1 (out), 21 OSC IN (in), 22 VDD (power), 23 NC, 24 CLK IN (in), 25 DATA IN (in), 26 BP OUT (out), 27 BP IN (in), 28 NC, 29 OUT 33 (out), 30 OUT 32 (out), 31 OUT 31 (out), 32 OUT 30 (out), 33 OUT 29 (out), 34 OUT 28 (out), 35 OUT 27 (out), 36 OUT 26 (out), 37 OUT 25 (out), 38 OUT 24 (out), 39 OUT 23 (out), 40 OUT 22 (out), 41 OUT 21 (out), 42 OUT 20 (out), 43 OUT 19 (out), 44 OUT 18 (out)

## MM5453V/NOPB
designator U?
Liquid Crystal Display Drivers, 44-pin PLCC, Pb-Free; PartNumber: MM5453V/NOPB; Manufacturer: National Semiconductor; PackageTopMarking: NSUZXYYTTE#*MM5453V; PowerWise: N; CompType: MiscPower; High-Reliability: Y; DatasheetVersion: Dec-2008; PackageVersion: revK, Dec-1993; PackageReference: V44A; PackageDescription: Plastic Chip Carrier, Sq, .050in Pitch, 44 Lead; RoHS: Y; PinCount: 44; Code_IPC: PLCC-44; ComponentLink1Description: Manufacturer URL; ComponentLink1URL: http://www.national.com/; ComponentLink2Description: MM5453 Datasheet; ComponentLink2URL: http://www.national.com/ds/MM/MM5453.pdf; ComponentLink3Description: MM5453 Web Page; ComponentLink3URL: http://www.national.com/pf/MM/MM5453.html; ComponentLink4Description: V44A Package Page; ComponentLink4URL: http://www.national.com/packaging/folders/v44a.html
footprint V44A_N (Leaded Chip Carrier, 44-Leads, Body 16.6x16.6mm, Pitch 1.27mm, IPC Medium Density)
footprint V44A_L (Leaded Chip Carrier, 44-Leads, Body 16.6x16.6mm, Pitch 1.27mm, IPC High Density)
footprint V44A_M (Leaded Chip Carrier, 44-Leads, Body 16.6x16.6mm, Pitch 1.27mm, IPC Low Density)
pins: 1 NC, 2 VSS (power), 3 OUT 17 (out), 4 OUT 16 (out), 5 OUT 15 (out), 6 OUT 14 (out), 7 OUT 13 (out), 8 OUT 12 (out), 9 OUT 11 (out), 10 OUT 10 (out), 11 OUT 9 (out), 12 OUT 8 (out), 13 OUT 7 (out), 14 OUT 6 (out), 15 OUT 5 (out), 16 OUT 4 (out), 17 OUT 3 (out), 18 NC, 19 OUT 2 (out), 20 OUT 1 (out), 21 OSC IN (in), 22 VDD (power), 23 NC, 24 CLK IN (in), 25 DATA IN (in), 26 BP OUT (out), 27 BP IN (in), 28 NC, 29 OUT 33 (out), 30 OUT 32 (out), 31 OUT 31 (out), 32 OUT 30 (out), 33 OUT 29 (out), 34 OUT 28 (out), 35 OUT 27 (out), 36 OUT 26 (out), 37 OUT 25 (out), 38 OUT 24 (out), 39 OUT 23 (out), 40 OUT 22 (out), 41 OUT 21 (out), 42 OUT 20 (out), 43 OUT 19 (out), 44 OUT 18 (out)

## MM5453VX
designator U?
Liquid Crystal Display Drivers, 44-pin PLCC; PartNumber: MM5453VX; Manufacturer: National Semiconductor; PackageTopMarking: NSUZXYYTTE#*MM5453V; PowerWise: N; CompType: MiscPower; High-Reliability: Y; DatasheetVersion: Dec-2008; PackageVersion: revK, Dec-1993; PackageReference: V44A; PackageDescription: Plastic Chip Carrier, Sq, .050in Pitch, 44 Lead; RoHS: N; PinCount: 44; Code_IPC: PLCC-44; ComponentLink1Description: Manufacturer URL; ComponentLink1URL: http://www.national.com/; ComponentLink2Description: MM5453 Datasheet; ComponentLink2URL: http://www.national.com/ds/MM/MM5453.pdf; ComponentLink3Description: MM5453 Web Page; ComponentLink3URL: http://www.national.com/pf/MM/MM5453.html; ComponentLink4Description: V44A Package Page; ComponentLink4URL: http://www.national.com/packaging/folders/v44a.html
footprint V44A_N (Leaded Chip Carrier, 44-Leads, Body 16.6x16.6mm, Pitch 1.27mm, IPC Medium Density)
footprint V44A_L (Leaded Chip Carrier, 44-Leads, Body 16.6x16.6mm, Pitch 1.27mm, IPC High Density)
footprint V44A_M (Leaded Chip Carrier, 44-Leads, Body 16.6x16.6mm, Pitch 1.27mm, IPC Low Density)
pins: 1 NC, 2 VSS (power), 3 OUT 17 (out), 4 OUT 16 (out), 5 OUT 15 (out), 6 OUT 14 (out), 7 OUT 13 (out), 8 OUT 12 (out), 9 OUT 11 (out), 10 OUT 10 (out), 11 OUT 9 (out), 12 OUT 8 (out), 13 OUT 7 (out), 14 OUT 6 (out), 15 OUT 5 (out), 16 OUT 4 (out), 17 OUT 3 (out), 18 NC, 19 OUT 2 (out), 20 OUT 1 (out), 21 OSC IN (in), 22 VDD (power), 23 NC, 24 CLK IN (in), 25 DATA IN (in), 26 BP OUT (out), 27 BP IN (in), 28 NC, 29 OUT 33 (out), 30 OUT 32 (out), 31 OUT 31 (out), 32 OUT 30 (out), 33 OUT 29 (out), 34 OUT 28 (out), 35 OUT 27 (out), 36 OUT 26 (out), 37 OUT 25 (out), 38 OUT 24 (out), 39 OUT 23 (out), 40 OUT 22 (out), 41 OUT 21 (out), 42 OUT 20 (out), 43 OUT 19 (out), 44 OUT 18 (out)

## MM5483N
designator U?
Liquid Crystal Display Driver, 40-pin MDIP; PartNumber: MM5483N; Manufacturer: National Semiconductor; PackageTopMarking: NSUZXYYTTE#*MM5483N; PowerWise: N; CompType: MiscPower; High-Reliability: Y; DatasheetVersion: Dec-2008; PackageVersion: revE, Nov-1983; PackageReference: N40A; PackageDescription: 40 Lead Molded Dip (N); RoHS: N; PinCount: 40; ComponentLink1Description: Manufacturer URL; ComponentLink1URL: http://www.national.com/; ComponentLink2Description: MM5483 Datasheet; ComponentLink2URL: http://www.national.com/ds/MM/MM5483.pdf; ComponentLink3Description: MM5483 Web Page; ComponentLink3URL: http://www.national.com/pf/MM/MM5483.html; ComponentLink4Description: N40A Package Page; ComponentLink4URL: http://www.national.com/packaging/folders/n40a.html
footprint N40A (DIP, 40-Leads, Row Spacing 15.24mm, Pitch 2.54mm, Body 52.24x13.97mm)
pins: 1 VSS (power), 2 OUT 16 (out), 3 OUT 15 (out), 4 OUT 14 (out), 5 OUT 13 (out), 6 OUT 12 (out), 7 OUT 11 (out), 8 OUT 10 (out), 9 OUT 9 (out), 10 OUT 8 (out), 11 OUT 7 (out), 12 OUT 6 (out), 13 OUT 5 (out), 14 OUT 4 (out), 15 OUT 3 (out), 16 OUT 2 (out), 17 OUT 1 (out), 18 DATA OUT (out), 19 OSC IN (in), 20 VDD (power), 21 CLK IN (in), 22 DATA IN (in), 23 BP OUT (out), 24 BP IN (in), 25 LOAD (in), 26 OUT 31 (out), 27 OUT 30 (out), 28 OUT 29 (out), 29 OUT 28 (out), 30 OUT 27 (out), 31 OUT 26 (out), 32 OUT 25 (out), 33 OUT 24 (out), 34 OUT 23 (out), 35 OUT 22 (out), 36 OUT 21 (out), 37 OUT 20 (out), 38 OUT 19 (out), 39 OUT 18 (out), 40 OUT 17 (out)

## MM5483V
designator U?
Liquid Crystal Display Driver, 44-pin PLCC; PartNumber: MM5483V; Manufacturer: National Semiconductor; PackageTopMarking: NSUZXYYTTE#*MM5483V; PowerWise: N; CompType: MiscPower; High-Reliability: Y; DatasheetVersion: Dec-2008; PackageVersion: revK, Dec-1993; PackageReference: V44A; PackageDescription: Plastic Chip Carrier, Sq, .050in Pitch, 44 Lead; RoHS: N; PinCount: 44; Code_IPC: PLCC-44; ComponentLink1Description: Manufacturer URL; ComponentLink1URL: http://www.national.com/; ComponentLink2Description: MM5483 Datasheet; ComponentLink2URL: http://www.national.com/ds/MM/MM5483.pdf; ComponentLink3Description: MM5483 Web Page; ComponentLink3URL: http://www.national.com/pf/MM/MM5483.html; ComponentLink4Description: V44A Package Page; ComponentLink4URL: http://www.national.com/packaging/folders/v44a.html
footprint V44A_N (Leaded Chip Carrier, 44-Leads, Body 16.6x16.6mm, Pitch 1.27mm, IPC Medium Density)
footprint V44A_L (Leaded Chip Carrier, 44-Leads, Body 16.6x16.6mm, Pitch 1.27mm, IPC High Density)
footprint V44A_M (Leaded Chip Carrier, 44-Leads, Body 16.6x16.6mm, Pitch 1.27mm, IPC Low Density)
pins: 1 NC, 2 VSS (GND) (power), 3 OUT 16 (out), 4 OUT 15 (out), 5 OUT 14 (out), 6 OUT 13 (out), 7 OUT 12 (out), 8 OUT 11 (out), 9 OUT 10 (out), 10 OUT 9 (out), 11 OUT 8 (out), 12 OUT 7 (out), 13 OUT 6 (out), 14 OUT 5 (out), 15 OUT 4 (out), 16 OUT 3 (out), 17 OUT 2 (out), 18 NC, 19 OUT 1 (out), 20 DATA OUT (out), 21 OSC IN (in), 22 VDD (power), 23 NC, 24 CLK IN (in), 25 DATA IN (in), 26 BP OUT (out), 27 BP IN (in), 28 LOAD (in), 29 NC, 30 OUT 31 (out), 31 OUT 30 (out), 32 OUT 29 (out), 33 OUT 28 (out), 34 OUT 27 (out), 35 OUT 26 (out), 36 OUT 25 (out), 37 OUT 24 (out), 38 OUT 23 (out), 39 OUT 22 (out), 40 OUT 21 (out), 41 OUT 20 (out), 42 OUT 19 (out), 43 OUT 18 (out), 44 OUT 17 (out)

## MM145453V
designator U?
Liquid Crystal Display Driver, 44-pin PLCC; PartNumber: MM145453V; Manufacturer: National Semiconductor; PackageTopMarking: NSUZXYYTTE#*MM145453V; PowerWise: N; CompType: MiscPower; High-Reliability: Y; DatasheetVersion: May-2000; PackageVersion: revK, Dec-1993; PackageReference: V44A; PackageDescription: Plastic Chip Carrier, Sq, .050in Pitch, 44 Lead; RoHS: N; PinCount: 44; Code_IPC: PLCC-44; ComponentLink1Description: Manufacturer URL; ComponentLink1URL: http://www.national.com/; ComponentLink2Description: MM145453 Datasheet; ComponentLink2URL: http://www.national.com/ds/MM/MM145453.pdf; ComponentLink3Description: MM145453 Web Page; ComponentLink3URL: http://www.national.com/pf/MM/MM145453.html; ComponentLink4Description: V44A Package Page; ComponentLink4URL: http://www.national.com/packaging/folders/v44a.html
footprint V44A_N (Leaded Chip Carrier, 44-Leads, Body 16.6x16.6mm, Pitch 1.27mm, IPC Medium Density)
footprint V44A_L (Leaded Chip Carrier, 44-Leads, Body 16.6x16.6mm, Pitch 1.27mm, IPC High Density)
footprint V44A_M (Leaded Chip Carrier, 44-Leads, Body 16.6x16.6mm, Pitch 1.27mm, IPC Low Density)
pins: 1 NC, 2 GND (VSS) (power), 3 OUT 17 (out), 4 OUT 16 (out), 5 OUT 15 (out), 6 OUT 14 (out), 7 OUT 13 (out), 8 OUT 12 (out), 9 OUT 11 (out), 10 OUT 10 (out), 11 OUT 9 (out), 12 NC, 13 OUT 8 (out), 14 OUT 7 (out), 15 OUT 6 (out), 16 OUT 5 (out), 17 OUT 4 (out), 18 OUT 3 (out), 19 OUT 2 (out), 20 OUT 1 (out), 21 OSC_IN (in), 22 VDD (power), 23 NC, 24 CLK (in), 25 DATA (in), 26 BP_OUT (out), 27 BP_IN (in), 28 OUT 33 (out), 29 OUT 32 (out), 30 OUT 31 (out), 31 OUT 30 (out), 32 OUT 29 (out), 33 OUT 28 (out), 34 NC, 35 OUT 27 (out), 36 OUT 26 (out), 37 OUT 25 (out), 38 OUT 24 (out), 39 OUT 23 (out), 40 OUT 22 (out), 41 OUT 21 (out), 42 OUT 20 (out), 43 OUT 19 (out), 44 OUT 18 (out)

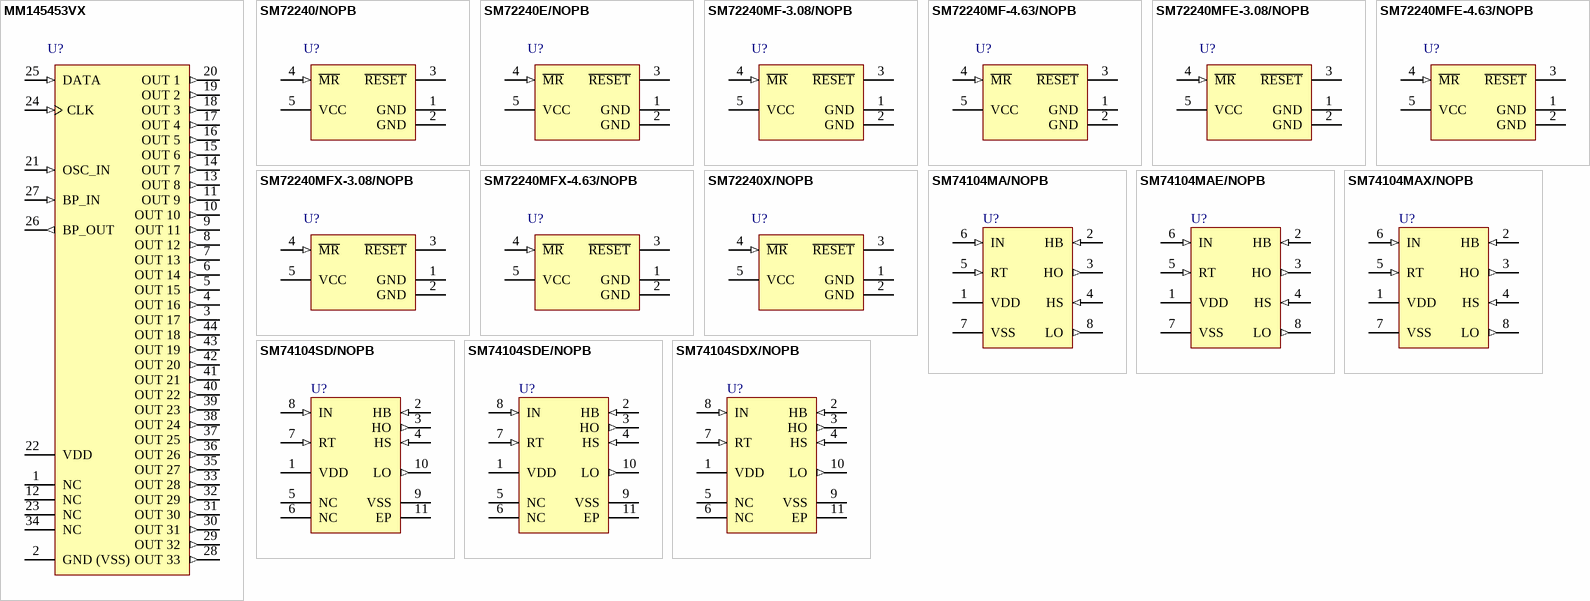
[diagram p57: symbols MM145453VX to SM74104SDX/NOPB]

## MM145453VX
designator U?
Liquid Crystal Display Driver, 44-pin PLCC; PartNumber: MM145453VX; Manufacturer: National Semiconductor; PackageTopMarking: NSUZXYYTTE#*MM145453V; PowerWise: N; CompType: MiscPower; High-Reliability: Y; DatasheetVersion: May-2000; PackageVersion: revK, Dec-1993; PackageReference: V44A; PackageDescription: Plastic Chip Carrier, Sq, .050in Pitch, 44 Lead; RoHS: N; PinCount: 44; Code_IPC: PLCC-44; ComponentLink1Description: Manufacturer URL; ComponentLink1URL: http://www.national.com/; ComponentLink2Description: MM145453 Datasheet; ComponentLink2URL: http://www.national.com/ds/MM/MM145453.pdf; ComponentLink3Description: MM145453 Web Page; ComponentLink3URL: http://www.national.com/pf/MM/MM145453.html; ComponentLink4Description: V44A Package Page; ComponentLink4URL: http://www.national.com/packaging/folders/v44a.html
footprint V44A_N (Leaded Chip Carrier, 44-Leads, Body 16.6x16.6mm, Pitch 1.27mm, IPC Medium Density)
footprint V44A_L (Leaded Chip Carrier, 44-Leads, Body 16.6x16.6mm, Pitch 1.27mm, IPC High Density)
footprint V44A_M (Leaded Chip Carrier, 44-Leads, Body 16.6x16.6mm, Pitch 1.27mm, IPC Low Density)
pins: 1 NC, 2 GND (VSS) (power), 3 OUT 17 (out), 4 OUT 16 (out), 5 OUT 15 (out), 6 OUT 14 (out), 7 OUT 13 (out), 8 OUT 12 (out), 9 OUT 11 (out), 10 OUT 10 (out), 11 OUT 9 (out), 12 NC, 13 OUT 8 (out), 14 OUT 7 (out), 15 OUT 6 (out), 16 OUT 5 (out), 17 OUT 4 (out), 18 OUT 3 (out), 19 OUT 2 (out), 20 OUT 1 (out), 21 OSC_IN (in), 22 VDD (power), 23 NC, 24 CLK (in), 25 DATA (in), 26 BP_OUT (out), 27 BP_IN (in), 28 OUT 33 (out), 29 OUT 32 (out), 30 OUT 31 (out), 31 OUT 30 (out), 32 OUT 29 (out), 33 OUT 28 (out), 34 NC, 35 OUT 27 (out), 36 OUT 26 (out), 37 OUT 25 (out), 38 OUT 24 (out), 39 OUT 23 (out), 40 OUT 22 (out), 41 OUT 21 (out), 42 OUT 20 (out), 43 OUT 19 (out), 44 OUT 18 (out)

## SM72240/NOPB
designator U?
SolarMagic 5-Pin Microprocessor Reset Circuits, 5-pin SOT-23, 3000 Reel, Pb-Free; PartNumber: SM72240/NOPB; Manufacturer: National Semiconductor; PackageTopMarking: 2240*XTT; PowerWise: N; CompType: MiscPower; High-Reliability: Y; DatasheetVersion: Feb-2011; PackageVersion: revD, Aug-2008; PackageReference: MF05A; PackageDescription: Molded SOT-23, .115 x .063 x .040 in Body, 5 Lead, .0375 in Pitch; RoHS: Y; PinCount: 5; ComponentLink1Description: Manufacturer URL; ComponentLink1URL: http://www.national.com/; ComponentLink2Description: SM72240 Datasheet; ComponentLink2URL: http://www.national.com/ds/SM/SM72240.pdf; ComponentLink3Description: SM72240 Web Page; ComponentLink3URL: http://www.national.com/pf/SM/SM72240.html; ComponentLink4Description: MF05A Package Page; ComponentLink4URL: http://www.national.com/packaging/folders/mf05a.html
footprint MF05A_N (SOT23, 5-Leads, Body 2.9x1.6mm, Pitch 0.95mm, Lead Span 2.8mm, IPC Medium Density)
footprint MF05A_L (SOT23, 5-Leads, Body 2.9x1.6mm, Pitch 0.95mm, Lead Span 2.8mm, IPC High Density)
footprint MF05A_M (SOT23, 5-Leads, Body 2.9x1.6mm, Pitch 0.95mm, Lead Span 2.8mm, IPC Low Density)
pins: 1 GND (power), 2 GND (power), 3 ~{RESET} (oc), 4 ~{MR} (in), 5 VCC (power)

## SM72240E/NOPB
designator U?
SolarMagic 5-Pin Microprocessor Reset Circuits, 5-pin SOT-23, 250 Reel, Pb-Free; PartNumber: SM72240E/NOPB; Manufacturer: National Semiconductor; PackageTopMarking: 2240*XTT; PowerWise: N; CompType: MiscPower; High-Reliability: Y; DatasheetVersion: Feb-2011; PackageVersion: revD, Aug-2008; PackageReference: MF05A; PackageDescription: Molded SOT-23, .115 x .063 x .040 in Body, 5 Lead, .0375 in Pitch; RoHS: Y; PinCount: 5; ComponentLink1Description: Manufacturer URL; ComponentLink1URL: http://www.national.com/; ComponentLink2Description: SM72240 Datasheet; ComponentLink2URL: http://www.national.com/ds/SM/SM72240.pdf; ComponentLink3Description: SM72240 Web Page; ComponentLink3URL: http://www.national.com/pf/SM/SM72240.html; ComponentLink4Description: MF05A Package Page; ComponentLink4URL: http://www.national.com/packaging/folders/mf05a.html
footprint MF05A_N (SOT23, 5-Leads, Body 2.9x1.6mm, Pitch 0.95mm, Lead Span 2.8mm, IPC Medium Density)
footprint MF05A_L (SOT23, 5-Leads, Body 2.9x1.6mm, Pitch 0.95mm, Lead Span 2.8mm, IPC High Density)
footprint MF05A_M (SOT23, 5-Leads, Body 2.9x1.6mm, Pitch 0.95mm, Lead Span 2.8mm, IPC Low Density)
pins: 1 GND (power), 2 GND (power), 3 ~{RESET} (oc), 4 ~{MR} (in), 5 VCC (power)

## SM72240MF-3.08/NOPB
designator U?
SolarMagic 5-Pin Microprocessor Reset Circuit, 5-pin SOT-23, 1000 Reel; PartNumber: SM72240MF-3.08/NOPB; Manufacturer: National Semiconductor; PackageTopMarking: R133*XTT; PowerWise: N; CompType: MiscPower; High-Reliability: Y; DatasheetVersion: Jun-2011; PackageVersion: revD, Aug-2008; PackageReference: MF05A; PackageDescription: Molded SOT-23, .115 x .063 x .040 in Body, 5 Lead, .0375 in Pitch; RoHS: Y; PinCount: 5; ComponentLink1Description: Manufacturer URL; ComponentLink1URL: http://www.national.com/; ComponentLink2Description: SM72240 Datasheet; ComponentLink2URL: http://www.national.com/ds/SM/SM72240.pdf; ComponentLink3Description: SM72240 Web Page; ComponentLink3URL: http://www.national.com/pf/SM/SM72240.html; ComponentLink4Description: MF05A Package Page; ComponentLink4URL: http://www.national.com/packaging/folders/mf05a.html
footprint MF05A_N (SOT23, 5-Leads, Body 2.9x1.6mm, Pitch 0.95mm, Lead Span 2.8mm, IPC Medium Density)
footprint MF05A_L (SOT23, 5-Leads, Body 2.9x1.6mm, Pitch 0.95mm, Lead Span 2.8mm, IPC High Density)
footprint MF05A_M (SOT23, 5-Leads, Body 2.9x1.6mm, Pitch 0.95mm, Lead Span 2.8mm, IPC Low Density)
pins: 1 GND (power), 2 GND (power), 3 ~{RESET} (oc), 4 ~{MR} (in), 5 VCC (power)

## SM72240MF-4.63/NOPB
designator U?
SolarMagic 5-Pin Microprocessor Reset Circuit, 5-pin SOT-23, 1000 Reel; PartNumber: SM72240MF-4.63/NOPB; Manufacturer: National Semiconductor; PackageTopMarking: 2240*XTT; PowerWise: N; CompType: MiscPower; High-Reliability: Y; DatasheetVersion: Jun-2011; PackageVersion: revD, Aug-2008; PackageReference: MF05A; PackageDescription: Molded SOT-23, .115 x .063 x .040 in Body, 5 Lead, .0375 in Pitch; RoHS: Y; PinCount: 5; ComponentLink1Description: Manufacturer URL; ComponentLink1URL: http://www.national.com/; ComponentLink2Description: SM72240 Datasheet; ComponentLink2URL: http://www.national.com/ds/SM/SM72240.pdf; ComponentLink3Description: SM72240 Web Page; ComponentLink3URL: http://www.national.com/pf/SM/SM72240.html; ComponentLink4Description: MF05A Package Page; ComponentLink4URL: http://www.national.com/packaging/folders/mf05a.html
footprint MF05A_N (SOT23, 5-Leads, Body 2.9x1.6mm, Pitch 0.95mm, Lead Span 2.8mm, IPC Medium Density)
footprint MF05A_L (SOT23, 5-Leads, Body 2.9x1.6mm, Pitch 0.95mm, Lead Span 2.8mm, IPC High Density)
footprint MF05A_M (SOT23, 5-Leads, Body 2.9x1.6mm, Pitch 0.95mm, Lead Span 2.8mm, IPC Low Density)
pins: 1 GND (power), 2 GND (power), 3 ~{RESET} (oc), 4 ~{MR} (in), 5 VCC (power)

## SM72240MFE-3.08/NOPB
designator U?
SolarMagic 5-Pin Microprocessor Reset Circuit, 5-pin SOT-23, 250 Reel; PartNumber: SM72240MFE-3.08/NOPB; Manufacturer: National Semiconductor; PackageTopMarking: R133*XTT; PowerWise: N; CompType: MiscPower; High-Reliability: Y; DatasheetVersion: Jun-2011; PackageVersion: revD, Aug-2008; PackageReference: MF05A; PackageDescription: Molded SOT-23, .115 x .063 x .040 in Body, 5 Lead, .0375 in Pitch; RoHS: Y; PinCount: 5; ComponentLink1Description: Manufacturer URL; ComponentLink1URL: http://www.national.com/; ComponentLink2Description: SM72240 Datasheet; ComponentLink2URL: http://www.national.com/ds/SM/SM72240.pdf; ComponentLink3Description: SM72240 Web Page; ComponentLink3URL: http://www.national.com/pf/SM/SM72240.html; ComponentLink4Description: MF05A Package Page; ComponentLink4URL: http://www.national.com/packaging/folders/mf05a.html
footprint MF05A_N (SOT23, 5-Leads, Body 2.9x1.6mm, Pitch 0.95mm, Lead Span 2.8mm, IPC Medium Density)
footprint MF05A_L (SOT23, 5-Leads, Body 2.9x1.6mm, Pitch 0.95mm, Lead Span 2.8mm, IPC High Density)
footprint MF05A_M (SOT23, 5-Leads, Body 2.9x1.6mm, Pitch 0.95mm, Lead Span 2.8mm, IPC Low Density)
pins: 1 GND (power), 2 GND (power), 3 ~{RESET} (oc), 4 ~{MR} (in), 5 VCC (power)

## SM72240MFE-4.63/NOPB
designator U?
SolarMagic 5-Pin Microprocessor Reset Circuit, 5-pin SOT-23, 250 Reel; PartNumber: SM72240MFE-4.63/NOPB; Manufacturer: National Semiconductor; PackageTopMarking: 2240*XTT; PowerWise: N; CompType: MiscPower; High-Reliability: Y; DatasheetVersion: Jun-2011; PackageVersion: revD, Aug-2008; PackageReference: MF05A; PackageDescription: Molded SOT-23, .115 x .063 x .040 in Body, 5 Lead, .0375 in Pitch; RoHS: Y; PinCount: 5; ComponentLink1Description: Manufacturer URL; ComponentLink1URL: http://www.national.com/; ComponentLink2Description: SM72240 Datasheet; ComponentLink2URL: http://www.national.com/ds/SM/SM72240.pdf; ComponentLink3Description: SM72240 Web Page; ComponentLink3URL: http://www.national.com/pf/SM/SM72240.html; ComponentLink4Description: MF05A Package Page; ComponentLink4URL: http://www.national.com/packaging/folders/mf05a.html
footprint MF05A_N (SOT23, 5-Leads, Body 2.9x1.6mm, Pitch 0.95mm, Lead Span 2.8mm, IPC Medium Density)
footprint MF05A_L (SOT23, 5-Leads, Body 2.9x1.6mm, Pitch 0.95mm, Lead Span 2.8mm, IPC High Density)
footprint MF05A_M (SOT23, 5-Leads, Body 2.9x1.6mm, Pitch 0.95mm, Lead Span 2.8mm, IPC Low Density)
pins: 1 GND (power), 2 GND (power), 3 ~{RESET} (oc), 4 ~{MR} (in), 5 VCC (power)